# Altium footprint library 5025700893.PcbLib: 1 footprints
Each footprint in its own frame and in the unit in brackets; x right, y up, seen from the top. Pads: shape width x height; smd on the part's side, far side on the other; paste and mask are expansions set on the pad; w line width, h text height; cw(c..) or ccw(c..) is an arc to the next point about the centre after c.
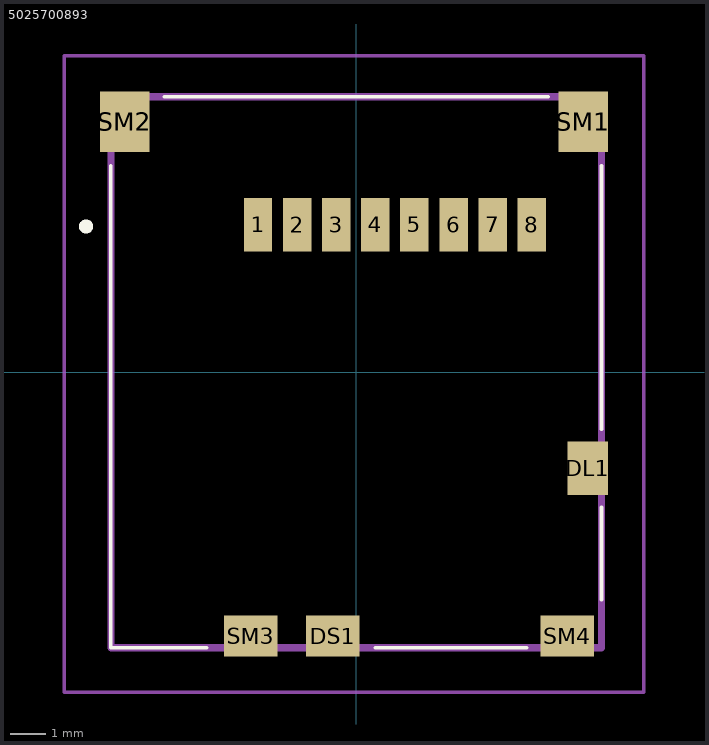
[diagram p0: the footprint, top view; thin cyan lines are the x and y axes]

## 5025700893 [mm]
pads (14):
  rect 0.8x1.5 smd: 1(-2.762,4.15) 2(-1.662,4.15) 3(-0.562,4.15) 4(0.538,4.15) 5(1.638,4.15) 6(2.738,4.15) 7(3.838,4.15) 8(4.938,4.15)
  rect 1.15x1.5 smd: DL1(6.513,-2.7)
  rect 1.5x1.15 smd: DS1(-0.662,-7.425) SM3(-2.962,-7.425) SM4(5.938,-7.425)
  rect 1.4x1.7 smd: SM1(6.388,7.05) SM2(-6.512,7.05)
Top Overlay:
  lines w0.1: -6.9,5.8 -6.9,-7.75 -4.2,-7.75 ; -5.4,7.75 5.4,7.75 ; 0.537,-7.75 4.8,-7.75 ; 6.9,-6.4 6.9,-3.8 ; 6.9,-1.6 6.9,5.8
  lines w0.2: -7.6,4 cw(c-7.6,4.1) -7.6,4.2 ; -7.6,4 -7.6,4 ; -7.6,4 ccw(c-7.6,4.1) -7.6,4.2 ; -7.6,4.2 -7.6,4.2
Mechanical 15:
  lines w0.2: -6.9,-7.75 6.9,-7.75 6.9,7.75 -6.9,7.75 -6.9,-7.75
Mechanical 20:
  lines w0.1: -8.212,-9 8.088,-9 8.088,8.9 -8.212,8.9 -8.212,-9
3D body "502570-0893.stp": height 5.8, standoff -4.65, extent -10,-3.376 10,3.376